# Altium schematic symbol library 0603 10uF 10V.Schlib: 1 symbol
Pins are listed as number, name and electrical type; pins without a type are passive.

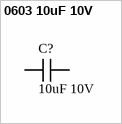
[diagram p0: symbol 0603 10uF 10V]

## 0603 10uF 10V
designator C?, comment value 10uF 10V  (hidden comment: Capacitor)
10uF ±10% 10V X5R 0603 Multilayer Ceramic Capacitors MLCC - SMD/SMT RoHS; LCSC Part #: C19702; ComponentLink1Description: LCSC - Samsung Electro-Mechanics CL10A106KP8NNNC; ComponentLink1URL: https://lcsc.com/product-detail/Multilayer-Ceramic-Capacitors-MLCC-SMD-SMT_SAMSUNG_CL10A106KP8NNNC_10uF-106-10-10V_C19702.html/?href=jlc-SMT
footprint CAP 0603_1608 (Chip Capacitor, 2-Leads, Body 1.60x0.80mm, IPC Medium Density)
pins: 1, 2